# EAGLE library part ISP752T (library AS-2-Extras)
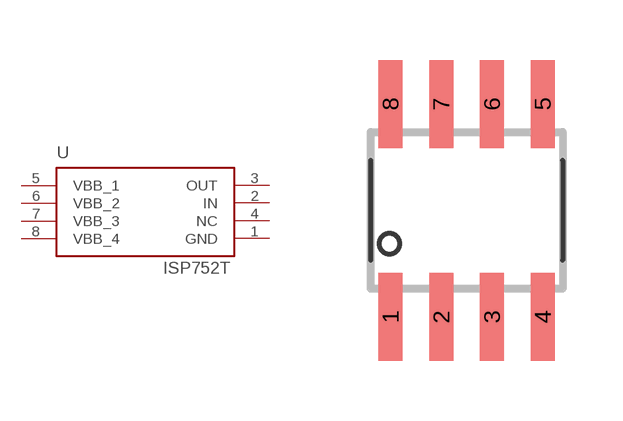
[diagram p4: symbol with the pads of 8-SOIC; footprint 8-SOIC]

Designator prefix -

## ISP752T  [8-SOIC]
1  GND
2  IN
3  OUT
4  NC
5  VBB_1
6  VBB_2
7  VBB_3
8  VBB_4

## Footprint 8-SOIC (pad centres in mm)
smd 0.6 x 2.2: 1 -1.905,-3.315; 2 -0.635,-3.315; 3 0.635,-3.315; 4 1.905,-3.315; 5 1.905,2.015; 6 0.635,2.015; 7 -0.635,2.015; 8 -1.905,2.015